# Altium footprint library QUTMS_PowerSupplyLibrary.PcbLib: 2 footprints
Each footprint in its own frame and in the unit in brackets; x right, y up, seen from the top. Pads: shape width x height; smd on the part's side, far side on the other; paste and mask are expansions set on the pad; w line width, h text height; cw(c..) or ccw(c..) is an arc to the next point about the centre after c.
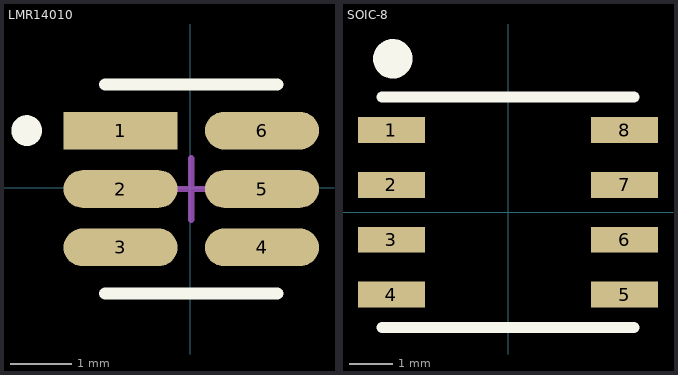
[diagram p0: the footprints below, top view; thin cyan lines are the x and y axes]

## LMR14010 [mm]
pads (6):
  rect 1.854x0.612 smd paste+0 mask+0: 1(-1.136,0.933)
  rrect100% 1.854x0.612 smd paste+0 mask+0: 2(-1.136,-0.017) 3(-1.136,-0.967) 4(1.164,-0.967) 5(1.164,-0.017) 6(1.164,0.933)
Top Overlay:
  circle w0.25: c-2.663,0.933 r0.125
  lines w0.2: -1.386,-1.717 1.414,-1.717 ; -1.386,1.683 1.414,1.683
Mechanical 16:
  lines w0.1: -0.486,-0.017 0.514,-0.017 ; 0.014,-0.517 0.014,0.483
3D body "IC_Texas_Instruments_LMR14010ADDCR_eec.STEP": height 0.25, standoff 0, extent -2.563,-1.967 2.592,1.933

## SOIC-8 [mm]
pads (8):
  rect 1.55x0.6 smd: 1(-2.7,1.905) 2(-2.7,0.635) 3(-2.7,-0.635) 4(-2.7,-1.905) 5(2.7,-1.905) 6(2.7,-0.635) 7(2.7,0.635) 8(2.7,1.905)
Top Overlay:
  circle w0.508: c-2.667,3.556 r0.203
  lines w0.254: -2.921,-2.667 2.921,-2.667 ; -2.921,2.667 2.921,2.667
3D body "D0008A.stp": height 1.63, standoff 0, extent -3.011,-2.451 3.011,2.451